# Altium schematic symbol library Schematic_Library.SchLib: 39 symbols (part 2 of 2)
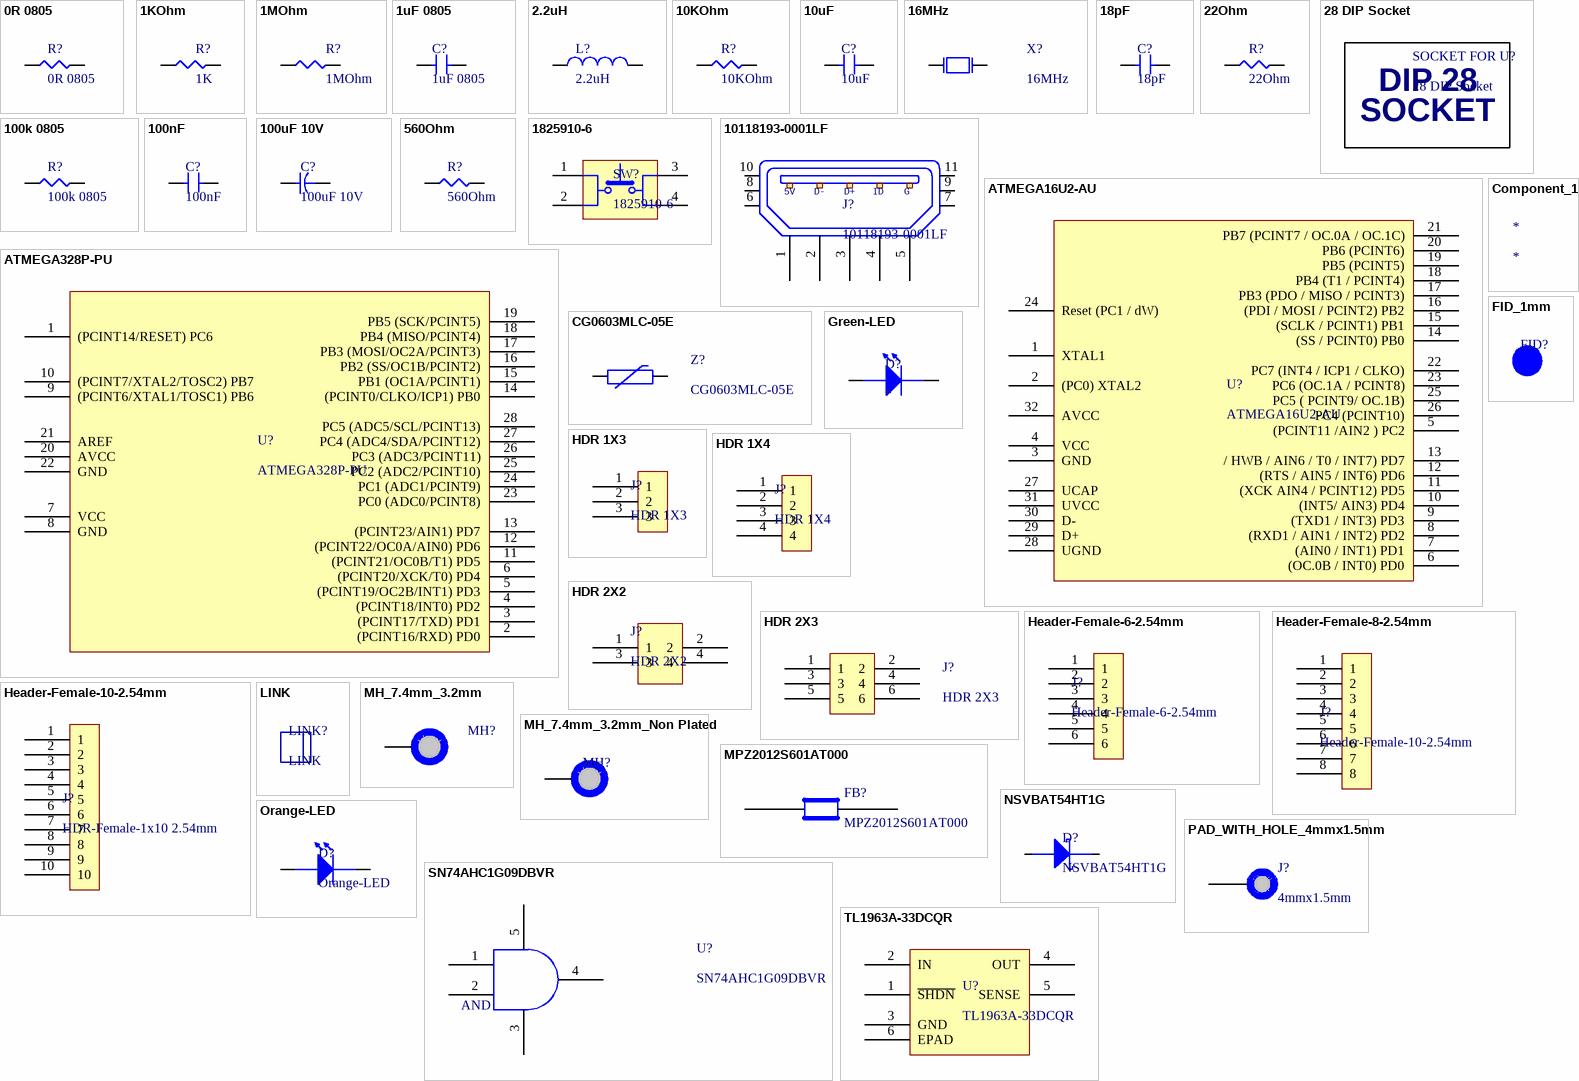
[diagram p1: symbols 0R 0805 to TL1963A-33DCQR]

## HDR 2X3
designator J?
BOARD-BOARD CONNECTOR HEADER, 6 POSITION, 2ROW; Product Range:AMPMODU Mod II Series; Contact Termination Type:Through Hole; Gender:Header; No. of Contacts:6; Pitch Spacing:2.54mm; Contact Plating:Gold Plated Contacts; No. of Rows:2 ;RoHS Compliant: Yes; Manufacturer: TE Connectivity; Manufacturer Part Number: 87227-3; Number of Positions: 6; Insulation Resistance: 5GR; Board Standoff: No (Without); High Speed Serial Data Connector: No; PCB Mount Retention: Without; Gender: Male; Connector Type: Connector,Pin; Contact Current Rating: 3A; Pitch: 2.54mm; Contact Post Length: 0.125inch; PCB Thickness: 1.4mm; Approvals: CSA,UL; Supplier 1: Digi-Key; Supplier Part Number 1: A26569-ND; RoHS: Yes; Category: Connectors; Stock 1: 8708; Pricing 1: 1=2.64000, 10=2.39300, 100=2.05120, 500=1.70934, 1000=1.46514, 5000=1.29909, 10000=1.26979 (USD); Mount: Through Hole; Contact Shape: Square; Housing Material: Thermoplastic; Contact Plating: Gold; Contact Material: Bronze; Color: Black; Housing Color: Black; Min Operating Temperature: -65°C; Max Operating Temperature: 105°C; Termination: Through Hole; Number of Contacts: 6; Contact Protection: No (Without); Gasket: No (Without); High Temperature Housing: No; Keyed: No; Mating Alignment: No (Without); Mating Connector Lock: No (Without); Panel Mount Retention: No (Without); Selectively Loaded: No (Without); Stabilizers: No (Without); Strain Relief: No (Without); Contact Gender: Male; Current Rating: 3A; Package Quantity: 520; Packaging: Carton; Number of Rows: 2; Orientation: Straight; Mounting Ears: No (Without); Length: 7.21mm; Row Spacing: 2.54mm; Contact Mating Length: 8.08mm; Depth: 5.08mm; Radiation Hardening: No; REACH SVHC: Unknown; ELV: Compliant; Lead Free: Lead Free; Flammability Rating: UL94 V-0; ComponentLink1URL: https://datasheet.ciiva.com/27055/1934542-27055082.pdf?src-supplier=Jameco; ComponentLink1Description: https://datasheet.ciiva.com/27055/1934542-27055082.pdf?src-supplier=Jameco; ComponentLink2URL: https://datasheet.ciiva.com/710/eng-cd-87227-h4-710306.pdf?src-supplier=Digi-Key; ComponentLink2Description: https://datasheet.ciiva.com/710/eng-cd-87227-h4-710306.pdf?src-supplier=Digi-Key; ComponentLink3URL: https://datasheet.ciiva.com/8047/eng-cs-1307819-section-5-0908-8047543.pdf?src-supplier=Element14; ComponentLink3Description: https://datasheet.ciiva.com/8047/eng-cs-1307819-section-5-0908-8047543.pdf?src-supplier=Element14; ComponentLink4URL: https://datasheet.ciiva.com/16684/eng-ds-1307819-ampmodu-0811-16684234.pdf?src-supplier=Avnet+Europe; ComponentLink4Description: https://datasheet.ciiva.com/16684/eng-ds-1307819-ampmodu-0811-16684234.pdf?src-supplier=Avnet+Europe; ComponentLink5URL: https://datasheet.ciiva.com/3118/eng-ds-1307819-ampmodu-0811-3118588.pdf?src-supplier=Avnet; ComponentLink5Description: https://datasheet.ciiva.com/3118/eng-ds-1307819-ampmodu-0811-3118588.pdf?src-supplier=Avnet; ComponentLink6URL: https://datasheet.ciiva.com/14645/70082847-14645500.pdf?src-supplier=Allied+Electronics; ComponentLink6Description: https://datasheet.ciiva.com/14645/70082847-14645500.pdf?src-supplier=Allied+Electronics; ComponentLink7URL: https://datasheet.ciiva.com/15175/getdatasheetpartid-36807-15175478.pdf?src-supplier=Verical; ComponentLink7Description: https://datasheet.ciiva.com/15175/getdatasheetpartid-36807-15175478.pdf?src-supplier=Verical
footprint HDR 2x3
pins: 1, 2, 3, 4, 5, 6

## Header-Female-6-2.54mm
designator J?
Female, 6 C, Straight, .100"CC; 3.20mm Tail, No Mt. 100u" Tin; PBT, Phos Bronze, 105 C; Manufacturer: Sullins; Manufacturer Part Number: PPTC061LFBN-RC; Connector Type: Header,Socket; Number of Positions: 6; Pitch: 0.1inch; Supplier 1: Digi-Key; Supplier Part Number 1: S7004-ND; RoHS: Yes; Category: Connectors; Stock 1: 39129; Pricing 1: 1=0.52000, 10=0.48300, 100=0.37050, 500=0.32220, 1000=0.26582, 5000=0.23360, 10000=0.23270 (USD); Mount: Through Hole; Contact Material: Bronze; Housing Material: Plastic; Color: Black; Contact Plating: Tin; Package Quantity: 1000; Packaging: Bulk; Number of Rows: 1; Termination: Solder; Length: 15.7mm; Width: 2.5mm; Height: 8.5mm; Lead Free: Lead Free; ComponentLink1URL: https://media.digikey.com/pdf/Data%20Sheets/Sullins%20PDFs/Female_Headers.100_DS.pdf?src-supplier=Digi-Key; ComponentLink1Description: https://media.digikey.com/pdf/Data%20Sheets/Sullins%20PDFs/Female_Headers.100_DS.pdf?src-supplier=Digi-Key; ComponentLink2URL: http://www.sullinscorp.com/catalogs/78_Page80-81_HEADER_.100_2.54mm_FEMALE.pdf?src-supplier=Future+Electronics; ComponentLink2Description: http://www.sullinscorp.com/catalogs/78_Page80-81_HEADER_.100_2.54mm_FEMALE.pdf?src-supplier=Future+Electronics
footprint Header-Female-2.54mm-6
pins: 1, 2, 3, 4, 5, 6

## Header-Female-8-2.54mm
designator J?, comment Header-Female-10-2.54mm
CONN HDR 8POS 0.1 TIN PCB; Manufacturer: Sullins; Manufacturer Part Number: PPTC081LFBN-RC; Number of Positions: 8; Connector Type: Header,Socket; Pitch: 0.1inch; Supplier 1: Digi-Key; Supplier Part Number 1: S7006-ND; RoHS: Yes; Category: Connectors; Stock 1: 90645; Pricing 1: 1=0.65000, 10=0.60800, 100=0.46580, 500=0.40500, 1000=0.33413, 5000=0.29363, 10000=0.29250 (USD); Mount: Through Hole; Housing Material: Plastic; Contact Plating: Tin; Color: Black; Contact Material: Bronze; Package Quantity: 1000; Number of Rows: 1; Packaging: Bulk; Termination: Solder; Length: 20.8mm; Width: 2.5mm; Height: 8.5mm; Lead Free: Lead Free; ComponentLink1URL: https://media.digikey.com/pdf/Data%20Sheets/Sullins%20PDFs/Female_Headers.100_DS.pdf?src-supplier=Digi-Key; ComponentLink1Description: https://media.digikey.com/pdf/Data%20Sheets/Sullins%20PDFs/Female_Headers.100_DS.pdf?src-supplier=Digi-Key; ComponentLink2URL: http://www.sullinscorp.com/catalogs/78_Page80-81_HEADER_.100_2.54mm_FEMALE.pdf?src-supplier=Future+Electronics; ComponentLink2Description: http://www.sullinscorp.com/catalogs/78_Page80-81_HEADER_.100_2.54mm_FEMALE.pdf?src-supplier=Future+Electronics
footprint Header-Female-2.54mm-8
pins: 1, 2, 3, 4, 5, 6, 7, 8

## Header-Female-10-2.54mm
designator J?, comment HDR-Female-1x10 2.54mm
CONN HDR 10POS 0.079 GOLD PCB; Manufacturer: Sullins; Manufacturer Part Number: NPPN101BFCN-RC; Current Rating: 1A; Gender: Female; Insulation Resistance: 5GR; Connector Type: Header,Socket; Number of Positions: 10; Pitch: 0.079inch; Supplier 1: Digi-Key; Supplier Part Number 1: S5751-10-ND; RoHS: Yes; Category: Connectors; Stock 1: 147597; Pricing 1: 1=0.98000, 10=0.86500, 100=0.74650, 500=0.61074, 1000=0.54288, 5000=0.49010 (USD); Mount: Through Hole; Contact Material: Bronze; Material: Nylon; Color: Black; Contact Plating: Gold; Min Operating Temperature: -40°C; Max Operating Temperature: 105°C; Termination: Solder; Package Quantity: 1000; Number of Rows: 1; Packaging: Bulk; Lead Free: Lead Free; ComponentLink1URL: https://datasheet.ciiva.com/745/75-1bfc-10483-745511.pdf?src-supplier=Digi-Key; ComponentLink1Description: https://datasheet.ciiva.com/745/75-1bfc-10483-745511.pdf?src-supplier=Digi-Key
footprint Header-Female-2.54mm-1x10
pins: 1, 2, 3, 4, 5, 6, 7, 8, 9, 10

## LINK
designator LINK?  (mechanical)
CONN JUMPER SHORTING .100" GOLD; Manufacturer: Sullins; Manufacturer Part Number: QPC02SXGN-RC; Number of Positions: 2; Pitch: 0.1inch; Supplier 1: Digi-Key; Supplier Part Number 1: S9337-ND; RoHS: Yes; Category: Connectors; Stock 1: 716811; Pricing 1: 1=0.10000, 25=0.04400, 50=0.03780, 250=0.03152, 750=0.02835, 1000=0.02646, 12000=0.02016, 24000=0.01827, 48000=0.01820 (USD); Case/Package: 100; Contact Plating: Gold; Package Quantity: 2000; Packaging: Bulk; Height: 0.235inch; Lead Free: Lead Free; ComponentLink1URL: https://datasheet.ciiva.com/767/284-sxgn-11510-767869.pdf?src-supplier=Digi-Key; ComponentLink1Description: https://datasheet.ciiva.com/767/284-sxgn-11510-767869.pdf?src-supplier=Digi-Key

## MH_7.4mm_3.2mm
designator MH?  (value not drawn)  (no BOM)
footprint MH_7.44mm_3.2mm
pins: 1

## MH_7.4mm_3.2mm_Non Plated
designator MH?  (value not drawn)  (no BOM)
footprint MH_7.4mm_3.2mm_Non_Plated
pins: 1

## MPZ2012S601AT000
designator FB?
FERRITE BEAD 600 OHM 0805 1LN; Manufacturer: TDK; Impedance: 600R; Current Rating: 2A; DC Resistance (DCR): 100mR; Supplier 1: Digi-Key; Supplier Part Number 1: 445-2206-1-ND; Manufacturer Part Number: MPZ2012S601AT000; RoHS: Yes; Category: Ferrite Beads and Chips; Stock 1: 186163; Pricing 1: 1=0.11000, 10=0.09200, 25=0.08240, 50=0.06040, 100=0.05220, 250=0.04116, 500=0.03478, 1000=0.02928 (USD); Mount: Surface Mount; Case/Package: 0805; Case Code (Metric): 2012; Case Code (Imperial): 0805; Packaging: Tape and Reel; Package Quantity: 1; Max DC Current: 2A; Length: 0.079inch; Width: 0.049inch; Height: 0.041inch; REACH SVHC: No SVHC; Lead Free: Lead Free; ComponentLink1URL: https://datasheet.ciiva.com/46634/beads-commercial-power-mpz-en-46634377.pdf?src-supplier=Digi-Key; ComponentLink1Description: https://datasheet.ciiva.com/46634/beads-commercial-power-mpz-en-46634377.pdf?src-supplier=Digi-Key; ComponentLink2URL: https://datasheet.ciiva.com/46634/beads-commercial-power-mpz-en-46634606.pdf?src-supplier=Digi-Key; ComponentLink2Description: https://datasheet.ciiva.com/46634/beads-commercial-power-mpz-en-46634606.pdf?src-supplier=Digi-Key; ComponentLink3URL: https://datasheet.ciiva.com/46634/beads-commercial-power-mpz-en-46634335.pdf?src-supplier=Digi-Key; ComponentLink3Description: https://datasheet.ciiva.com/46634/beads-commercial-power-mpz-en-46634335.pdf?src-supplier=Digi-Key
footprint C-0805-16V
pins: 1, 2

## NSVBAT54HT1G
designator D?
Schottky Diodes & Rectifiers SS SCHOTTKY DIODE; Manufacturer: ON Semiconductor; Forward Current: 200mA; Forward Voltage: 800mV; Max Power Dissipation: 200mW; Recovery Time: 5ns; Max Repetitive Reverse Voltage (Vrrm): 30V; Peak Non-Repetitive Surge Current: 600mA; Element Configuration: Single; Supplier 1: Digi-Key; Supplier Part Number 1: NSVBAT54HT1GOSCT-ND; Manufacturer Part Number: NSVBAT54HT1G; RoHS: Yes; Category: Schottky Diodes; Stock 1: 8813; Pricing 1: 1=0.48000, 10=0.34200, 100=0.17230, 500=0.15266, 1000=0.11880 (USD); Case/Package: SOD-323-2; Number of Pins: 2; Min Operating Temperature: -55°C; Max Operating Temperature: 150°C; Package Quantity: 3000; Packaging: Tape and Reel; Average Rectified Current: 200mA; Reverse Recovery Time: 5ns; Max Forward Surge Current (Ifsm): 600mA; Max Reverse Voltage (DC): 30V; Length: 1.8mm; Width: 1.35mm; Height: 0.9mm; Radiation Hardening: No; Lead Free: Lead Free; Halogen Free: Halogen Free; ComponentLink1URL: https://datasheet.ciiva.com/923/bat54ht1-d-923204.pdf?src-supplier=Digi-Key; ComponentLink1Description: https://datasheet.ciiva.com/923/bat54ht1-d-923204.pdf?src-supplier=Digi-Key; ComponentLink2URL: https://datasheet.ciiva.com/25932/bat54ht1-d-25932182.pdf?src-supplier=Avnet+Europe; ComponentLink2Description: https://datasheet.ciiva.com/25932/bat54ht1-d-25932182.pdf?src-supplier=Avnet+Europe
footprint SOD323
pins: 1 Cathode, 2 Anode

## Orange-LED
designator D?
OSRAM - LO L29K-H2K1-24-Z - SMARTLED 0603 ORANGE; Manufacturer: Osram Opto; Lens Color: White; Forward Current: 20mA; Forward Voltage: 2.2V; Luminous Intensity: 9mcd; Viewing Angle: 160°; Test Current: 2mA; Lens Style: Flat,Diffused,Colorless,Rectangular; Dominant Wavelength: 606nm; Luminous Flux: 0.025lm; Lens Transparency: Diffused; Number of Elements: 1; Reverse Voltage: 12V; Lens Size: 0.8mm; Supplier 1: Digi-Key; Supplier Part Number 1: 475-2740-2-ND; Manufacturer Part Number: LOL29K-H2K1-24-Z; RoHS: Yes; Category: Uncategorized; Mount: Surface Mount; Case/Package: 0603; Number of Pins: 2; Case Code (Metric): 1608; Color: Orange; Case Code (Imperial): 0603; Min Operating Temperature: -40°C; Max Operating Temperature: 100°C; Illumination Color: Orange; Packaging: Tape and Reel; Package Quantity: 5000; Number of LEDs: 1; Length: 1.3mm; Width: 0.8mm; Height: 0.65mm; Depth: 0.8mm; Radiation Hardening: No; ComponentLink1URL: https://datasheet.ciiva.com/2112/00077105-0-2112904.pdf?src-supplier=Digi-Key; ComponentLink1Description: https://datasheet.ciiva.com/2112/00077105-0-2112904.pdf?src-supplier=Digi-Key; ComponentLink2URL: https://datasheet.ciiva.com/2112/00077105-0-2112905.pdf?src-supplier=Digi-Key; ComponentLink2Description: https://datasheet.ciiva.com/2112/00077105-0-2112905.pdf?src-supplier=Digi-Key; ComponentLink3URL: https://datasheet.ciiva.com/2112/00077105-0-2112906.pdf?src-supplier=Digi-Key; ComponentLink3Description: https://datasheet.ciiva.com/2112/00077105-0-2112906.pdf?src-supplier=Digi-Key; ComponentLink4URL: https://datasheet.ciiva.com/15198/getdatasheetpartid-693885-15198412.pdf?src-supplier=Verical; ComponentLink4Description: https://datasheet.ciiva.com/15198/getdatasheetpartid-693885-15198412.pdf?src-supplier=Verical
footprint LED-0603
pins: 1, 2

## PAD_WITH_HOLE_4mmx1.5mm
designator J?, comment 4mmx1.5mm  (no BOM)
footprint PAD_WITH_HOLE_4mmx1.5mm
pins: 1

## SN74AHC1G09DBVR
designator U?
TEXAS INSTRUMENTS - SN74AHC1G09DBVR - AND Gate, 74AHC1G09, 2 Input, 2 V to 5.5 V, SOT-23-5; Output Voltage: 5.5V; Number of Inputs: 2; Propagation Delay: 7.5ns; Min Supply Voltage: 2V; Output Current: 25mA; Number of Outputs: 1; Quiescent Current: 1uA; Low Level Output Current: 8mA; Supplier 1: Digi-Key; Supplier Part Number 1: 296-29202-1-ND; Manufacturer: Texas Instruments; Manufacturer Part Number: SN74AHC1G09DBVR; RoHS: Yes; Category: Logic Gates; Stock 1: 14056; Pricing 1: 1=0.32000, 10=0.24000, 25=0.21000, 100=0.13590, 250=0.11252, 500=0.09000, 1000=0.06900 (USD); Mount: Surface Mount; Case/Package: SOT-23; Number of Pins: 5; Contact Plating: Tin,Matte; Min Operating Temperature: -55°C; Max Operating Temperature: 125°C; Package Quantity: 3000; Packaging: Tape and Reel; Max Supply Voltage: 5.5V; Logic Function: AND GATE; Number of Circuits: 1; Number of Gates: 1; Number of Elements: 1; Number of Bits: 1; Radiation Hardening: No; REACH SVHC: No SVHC; Lead Free: Lead Free; ComponentLink1URL: https://datasheet.ciiva.com/1864/sn74ahc1g09-1864410.pdf?src-supplier=Digi-Key; ComponentLink1Description: https://datasheet.ciiva.com/1864/sn74ahc1g09-1864410.pdf?src-supplier=Digi-Key; ComponentLink2URL: https://datasheet.ciiva.com/1864/sn74ahc1g09-1864411.pdf?src-supplier=Digi-Key; ComponentLink2Description: https://datasheet.ciiva.com/1864/sn74ahc1g09-1864411.pdf?src-supplier=Digi-Key; ComponentLink3URL: https://datasheet.ciiva.com/1864/sn74ahc1g09-1864412.pdf?src-supplier=Digi-Key; ComponentLink3Description: https://datasheet.ciiva.com/1864/sn74ahc1g09-1864412.pdf?src-supplier=Digi-Key
footprint DBV-SOT-23_5
pins: 1, 2, 3, 4, 5
text: AND

## TL1963A-33DCQR
designator U?
IC REG LINEAR 3.3V 1.5A SOT223-6; Manufacturer: Texas Instruments; Dropout Voltage: 340mV; Number of Outputs: 1; Max Input Voltage: 20V; Min Input Voltage: 2.1V; Min Current Limit: 1.6A; Input Bias Current: 1mA; Polarity: Positive; Accuracy: 3%; Output Type: Fixed; Supplier 1: Digi-Key; Supplier Part Number 1: 296-24534-1-ND; Manufacturer Part Number: TL1963A-33DCQR; RoHS: Yes; Category: Voltage Regulators - Linear; Stock 1: 1750; Pricing 1: 1=2.80000, 10=2.51300, 25=2.37600, 100=1.95360, 250=1.75296, 500=1.68960, 1000=1.40448 (USD); Case/Package: SOT-223; Number of Pins: 6; Contact Plating: Gold; Min Operating Temperature: -40°C; Max Operating Temperature: 125°C; Package Quantity: 1; Packaging: Tape and Reel; Output Voltage: 3.3V; Output Current: 1.5A; Max Output Current: 1.5A; Number of Regulators: 1; Quiescent Current: 1mA; Max Output Voltage: 3.3V; Min Output Voltage: 3.3V; Radiation Hardening: No; Lead Free: Lead Free; ComponentLink1URL: https://datasheet.ciiva.com/2046/tl1963a-2046161.pdf?src-supplier=Digi-Key; ComponentLink1Description: https://datasheet.ciiva.com/2046/tl1963a-2046161.pdf?src-supplier=Digi-Key; ComponentLink2URL: https://datasheet.ciiva.com/2046/tl1963a-2046162.pdf?src-supplier=Digi-Key; ComponentLink2Description: https://datasheet.ciiva.com/2046/tl1963a-2046162.pdf?src-supplier=Digi-Key; ComponentLink3URL: https://datasheet.ciiva.com/2046/tl1963a-2046163.pdf?src-supplier=Digi-Key; ComponentLink3Description: https://datasheet.ciiva.com/2046/tl1963a-2046163.pdf?src-supplier=Digi-Key; ComponentLink4URL: https://datasheet.ciiva.com/26176/tl1963a-25-26176569.pdf?src-supplier=Avnet+Europe; ComponentLink4Description: https://datasheet.ciiva.com/26176/tl1963a-25-26176569.pdf?src-supplier=Avnet+Europe
footprint DCQ-3V3LDO
pins: 1 ~{SHDN}, 2 IN, 3 GND, 4 OUT, 5 SENSE, 6 EPAD